# Altium schematic symbol library Components.SchLib: 65 symbols (part 2 of 2)
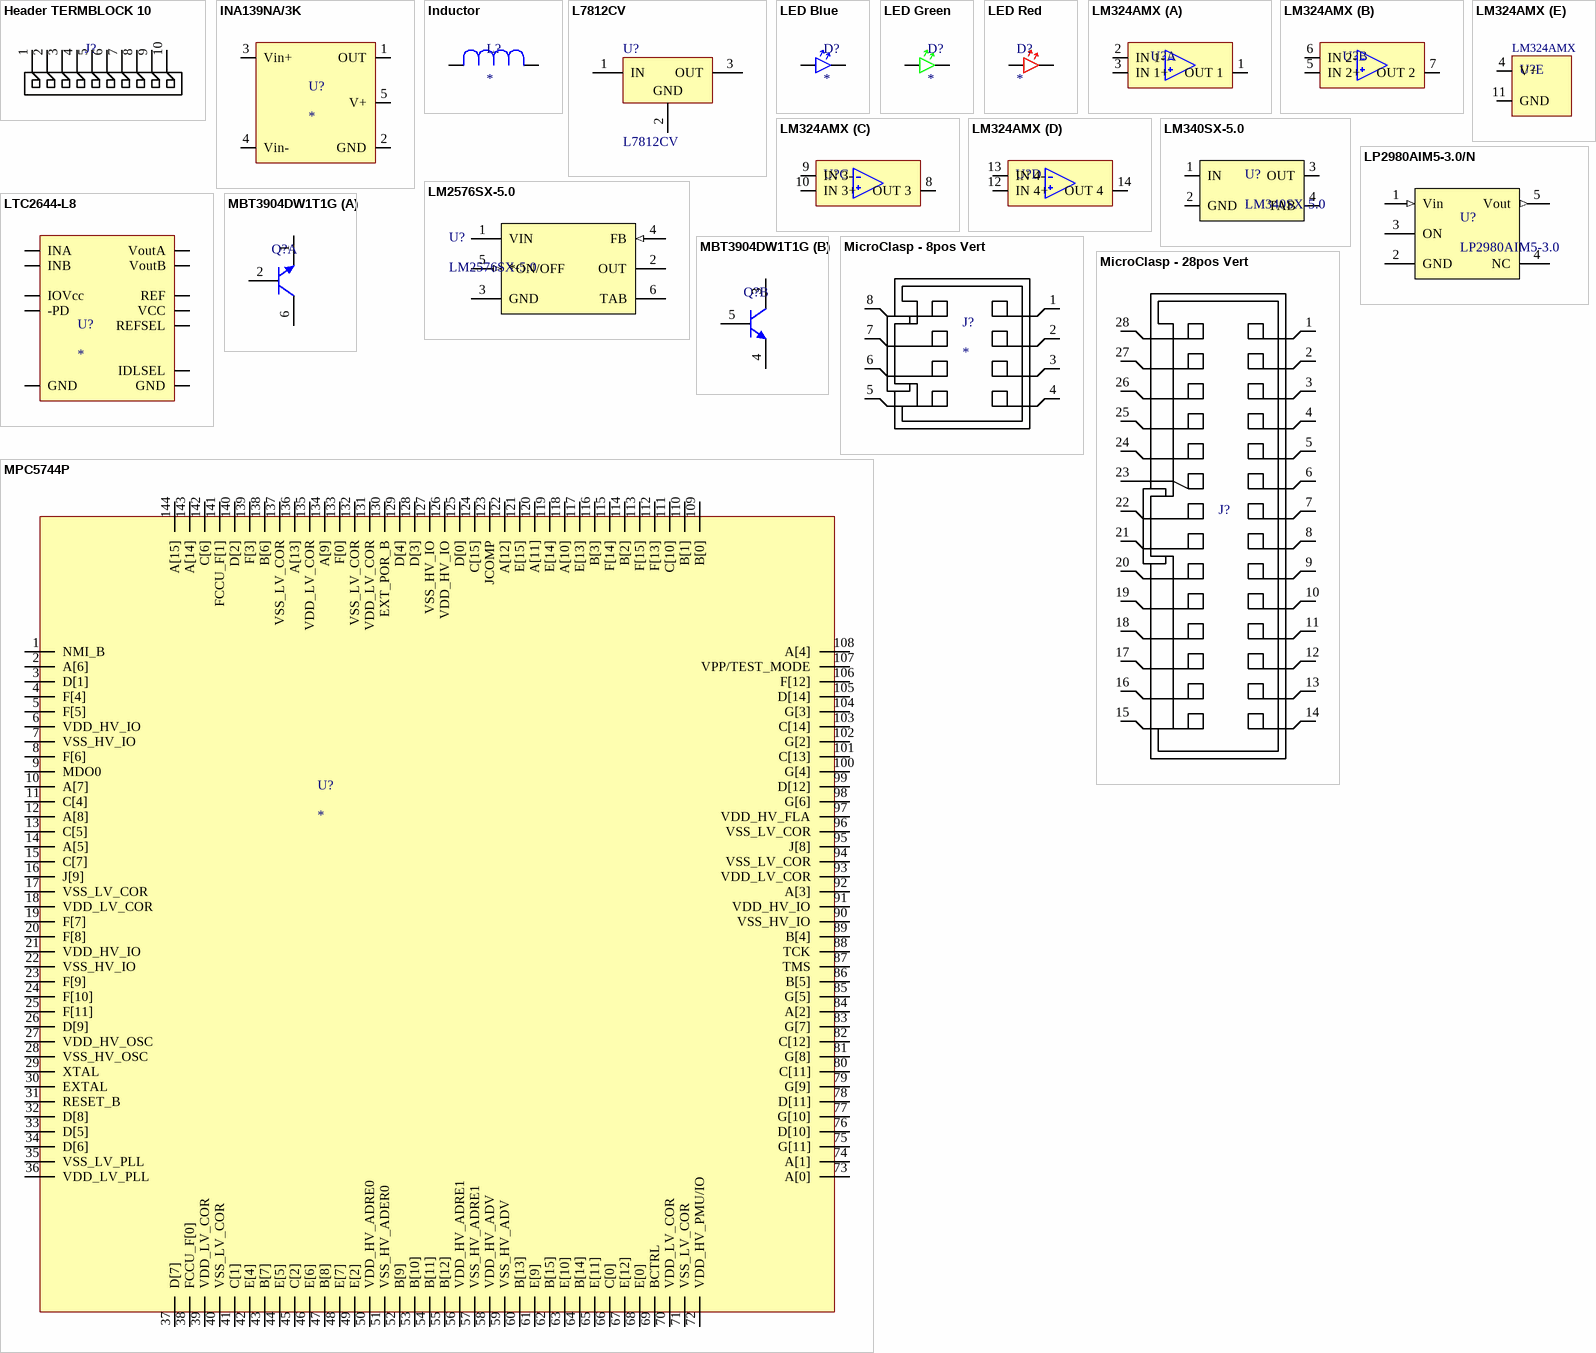
[diagram p3: symbols Header TERMBLOCK 10 to MPC5744P]

## MBT3904DW1T1G
designator Q?
Dual General Purpose Transistors, 6-Pin SOT-363, Pb-Free, Tape and Reel; Manufacturer: On Semiconductor; PartNumber: MBT3904DW1T1G; fT Min (MHz): 300; IC Continuous (A): 0.2; Polarity: Dual NPN; DatasheetVersion: Rev. 9; PackageVersion: Rev. W, 01/2006; PackageReference: SOT-363-6-419B-02_W; PackageDescription: 6-Pin Small Outline Transistor, Body 2 x 1.25 mm, Pitch 0.65 mm; Supplier 1: Digi-Key; Supplier Part Number 1: MBT3904DW1T1GOSTR-ND; Supplier 2: Digi-Key; Supplier Part Number 2: MBT3904DW1T1GOSCT-ND; Supplier 3: Digi-Key; Supplier Part Number 3: MBT3904DW1T1GOSDKR-ND; Supplier 4: Farnell; Supplier Part Number 4: 2317918; Supplier 5: Farnell; Supplier Part Number 5: 1653615; Supplier 6: Farnell; Supplier Part Number 6: 1653615RL; Supplier 7: Newark; Supplier Part Number 7: 88H4687; Supplier 8: Newark; Supplier Part Number 8: 67R1321; Supplier 9: Mouser; Supplier Part Number 9: 863-MBT3904DW1T1G; Packing: Tape and Reel; RoHS: TRUE; Mounting Technology: Surface Mount; ComponentLink1Description: Manufacturer URL; ComponentLink1URL: http://www.onsemi.com/; ComponentLink2Description: Datasheet; ComponentLink2URL: http://www.onsemi.com/pub_link/Collateral/MBT3904DW1T1-D.PDF; ComponentLink3Description: Package Specification; ComponentLink3URL: http://www.onsemi.com/pub_link/Collateral/NTJD4001N-D.PDF
footprint ONSC-SOT-363-6-419B-02_W_V (SOT23, 6-Leads, Body 2x1.25mm, Pitch 0.65mm)
part A pins: 1 E, 2 B, 6 C
part B pins: 3 C, 4 E, 5 B

## MicroClasp - 8pos Vert
designator J?
Conn Shrouded Header HDR 8 POS 2mm Solder ST Thru-Hole MicroClasp™ Tray
footprint MicroClasp 8pos
pins: 1, 2, 3, 4, 5, 6, 7, 8

## MicroClasp - 28pos Vert
designator J?
Conn Shrouded Header HDR 28 POS 2mm Solder ST Thru-Hole MicroClasp™ Tray; Manufacturer: Molex; Manufacturer Part Number: 0559172810; Number of Positions: 28; Contact Resistance: 20mR; Max Voltage Rating (DC): 250V; Connector Type: Male Pin; Pitch: 0.079inch; Row Spacing: 0.197inch; Supplier 1: Digi-Key; RoHS: Yes; Category: Headers and Wire Housings; Stock 1: 2604; Pricing 1: 1=1.26000, 10=1.11000, 400=0.87058, 800=0.76176, 1200=0.69647, 5200=0.60941, 10000=0.57894 (USD); Mount: Through Hole; Contact Plating: Tin; Contact Material: Brass; Housing Material: Polybutylene; Color: Natural; Housing Color: White; Min Operating Temperature: -25°C; Max Operating Temperature: 85°C; Number of Rows: 2; Packaging: Tray; Termination: Solder; Orientation: Straight; Fastening Type: Latch; Max Voltage Rating (AC): 250V; Length: 31.4mm; Depth: 11.5mm; Contact Mating Length: 0.15inch; Radiation Hardening: No; ComponentLink1URL: https://datasheet.ciiva.com/737/559172810-sd-737995.pdf?src-supplier=Digi-Key; ComponentLink1Description: https://datasheet.ciiva.com/737/559172810-sd-737995.pdf?src-supplier=Digi-Key; Supplier Part Number 1: WM3442-ND
footprint MicroClasp 28pos
pins: 1, 2, 3, 4, 5, 6, 7, 8, 9, 10, 11, 12, 13, 14, 15, 16, 17, 18, 19, 20, 21, 22, 23, 24, 25, 26, 27, 28

## MPC5744P
designator U?
footprint 144 LQFP (CQFP, 144-Leads, Body 22.00x22.00mm, Pitch 0.50mm, IPC Medium Density)
pins: 1 NMI_B, 2 A[6], 3 D[1], 4 F[4], 5 F[5], 6 VDD_HV_IO, 7 VSS_HV_IO, 8 F[6], 9 MDO0, 10 A[7], 11 C[4], 12 A[8], 13 C[5], 14 A[5], 15 C[7], 16 J[9], 17 VSS_LV_COR, 18 VDD_LV_COR, 19 F[7], 20 F[8], 21 VDD_HV_IO, 22 VSS_HV_IO, 23 F[9], 24 F[10], 25 F[11], 26 D[9], 27 VDD_HV_OSC, 28 VSS_HV_OSC, 29 XTAL, 30 EXTAL, 31 RESET_B, 32 D[8], 33 D[5], 34 D[6], 35 VSS_LV_PLL, 36 VDD_LV_PLL, 37 D[7], 38 FCCU_F[0], 39 VDD_LV_COR, 40 VSS_LV_COR, 41 C[1], 42 E[4], 43 B[7], 44 E[5], 45 C[2], 46 E[6], 47 B[8], 48 E[7], 49 E[2], 50 VDD_HV_ADRE0, 51 VSS_HV_ADER0, 52 B[9], 53 B[10], 54 B[11], 55 B[12], 56 VDD_HV_ADRE1, 57 VSS_HV_ADRE1, 58 VDD_HV_ADV, 59 VSS_HV_ADV, 60 B[13], 61 E[9], 62 B[15], 63 E[10], 64 B[14], 65 E[11], 66 C[0], 67 E[12], 68 E[0], 69 BCTRL, 70 VDD_LV_COR, 71 VSS_LV_COR, 72 VDD_HV_PMU/IO, 73 A[0], 74 A[1], 75 G[11], 76 D[10], 77 G[10], 78 D[11], 79 G[9], 80 C[11], 81 G[8], 82 C[12], 83 G[7], 84 A[2], 85 G[5], 86 B[5], 87 TMS, 88 TCK, 89 B[4], 90 VSS_HV_IO, 91 VDD_HV_IO, 92 A[3], 93 VDD_LV_COR, 94 VSS_LV_COR, 95 J[8], 96 VSS_LV_COR, 97 VDD_HV_FLA, 98 G[6], 99 D[12], 100 G[4], 101 C[13], 102 G[2], 103 C[14], 104 G[3], 105 D[14], 106 F[12], 107 VPP/TEST_MODE, 108 A[4], 109 B[0], 110 B[1], 111 C[10], 112 F[13], 113 F[15], 114 B[2], 115 F[14], 116 B[3], 117 E[13], 118 A[10], 119 E[14], 120 A[11], 121 E[15], 122 A[12], 123 JCOMP, 124 C[15], 125 D[0], 126 VDD_HV_IO, 127 VSS_HV_IO, 128 D[3], 129 D[4], 130 EXT_POR_B, 131 VDD_LV_COR, 132 VSS_LV_COR, 133 F[0], 134 A[9], 135 VDD_LV_COR, 136 A[13], 137 VSS_LV_COR, 138 B[6], 139 F[3], 140 D[2], 141 FCCU_F[1], 142 C[6], 143 A[14], 144 A[15]

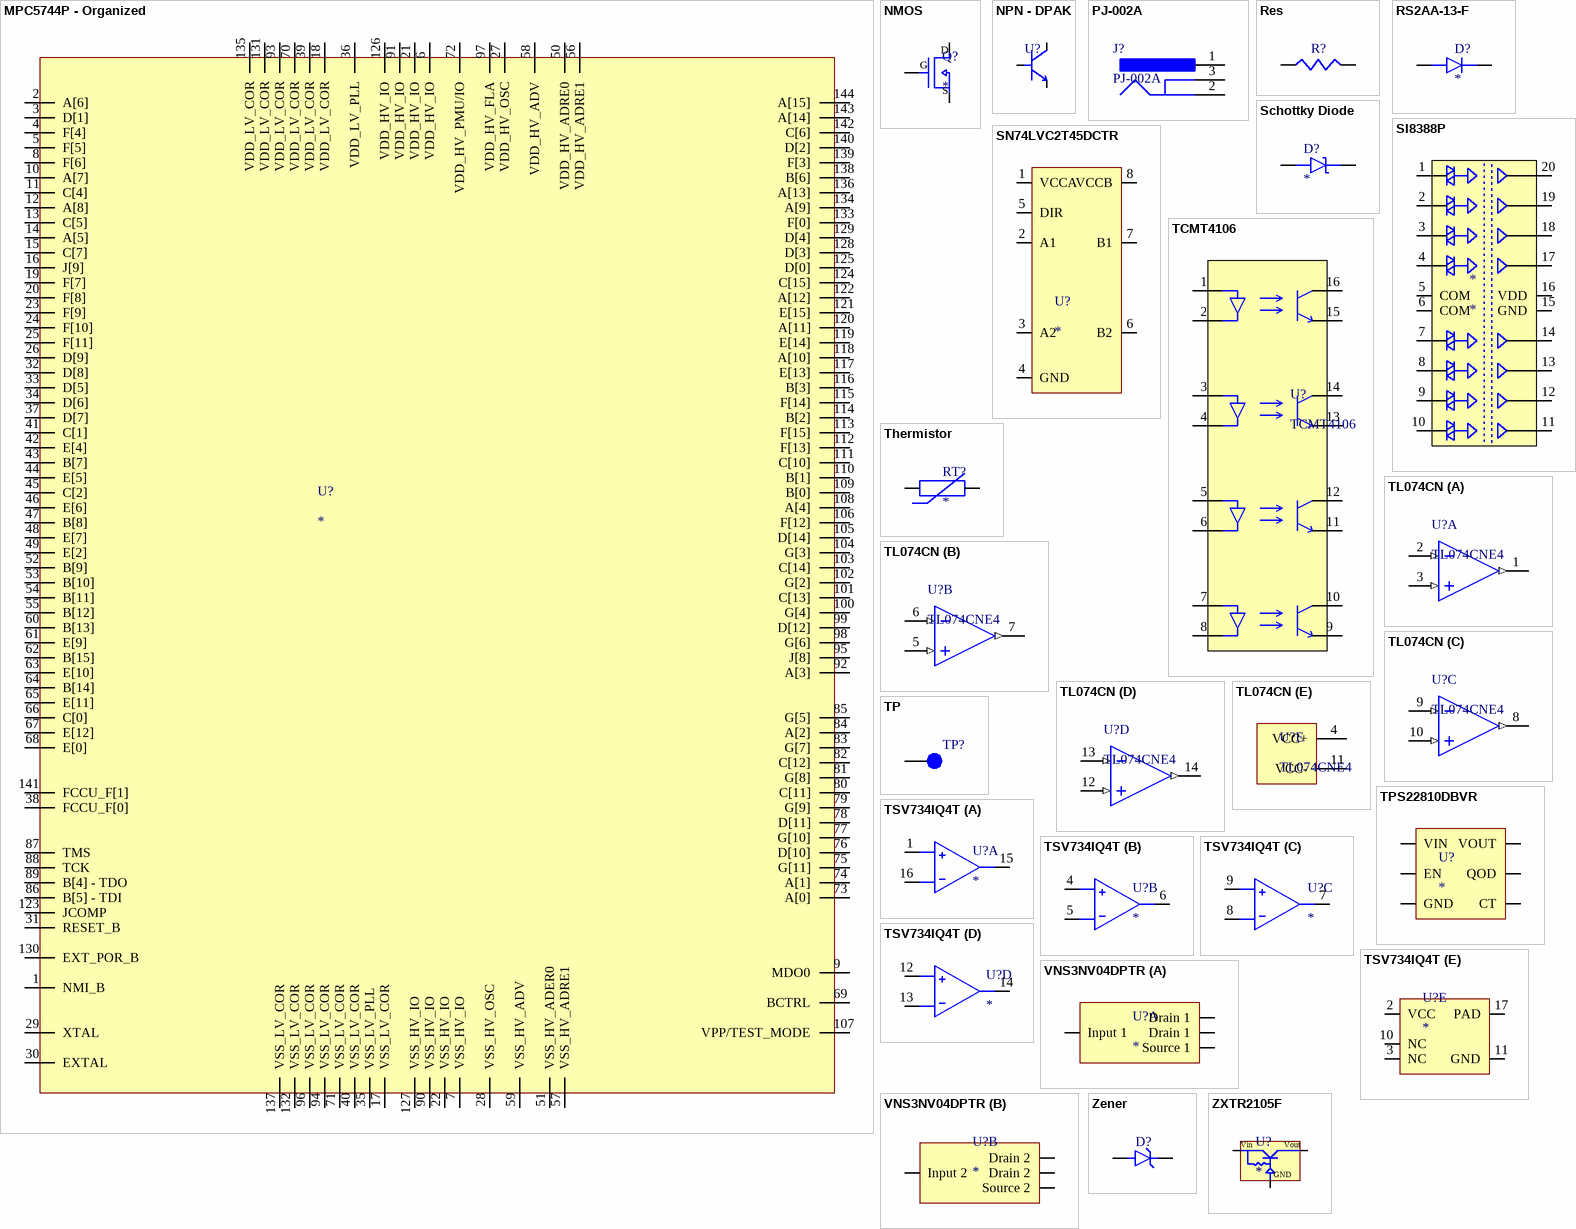
[diagram p2: symbols MPC5744P - Organized to ZXTR2105F]

## MPC5744P - Organized
designator U?
footprint 144 LQFP (CQFP, 144-Leads, Body 22.00x22.00mm, Pitch 0.50mm, IPC Medium Density)
pins: 1 NMI_B, 2 A[6], 3 D[1], 4 F[4], 5 F[5], 6 VDD_HV_IO, 7 VSS_HV_IO, 8 F[6], 9 MDO0, 10 A[7], 11 C[4], 12 A[8], 13 C[5], 14 A[5], 15 C[7], 16 J[9], 17 VSS_LV_COR, 18 VDD_LV_COR, 19 F[7], 20 F[8], 21 VDD_HV_IO, 22 VSS_HV_IO, 23 F[9], 24 F[10], 25 F[11], 26 D[9], 27 VDD_HV_OSC, 28 VSS_HV_OSC, 29 XTAL, 30 EXTAL, 31 RESET_B, 32 D[8], 33 D[5], 34 D[6], 35 VSS_LV_PLL, 36 VDD_LV_PLL, 37 D[7], 38 FCCU_F[0], 39 VDD_LV_COR, 40 VSS_LV_COR, 41 C[1], 42 E[4], 43 B[7], 44 E[5], 45 C[2], 46 E[6], 47 B[8], 48 E[7], 49 E[2], 50 VDD_HV_ADRE0, 51 VSS_HV_ADER0, 52 B[9], 53 B[10], 54 B[11], 55 B[12], 56 VDD_HV_ADRE1, 57 VSS_HV_ADRE1, 58 VDD_HV_ADV, 59 VSS_HV_ADV, 60 B[13], 61 E[9], 62 B[15], 63 E[10], 64 B[14], 65 E[11], 66 C[0], 67 E[12], 68 E[0], 69 BCTRL, 70 VDD_LV_COR, 71 VSS_LV_COR, 72 VDD_HV_PMU/IO, 73 A[0], 74 A[1], 75 G[11], 76 D[10], 77 G[10], 78 D[11], 79 G[9], 80 C[11], 81 G[8], 82 C[12], 83 G[7], 84 A[2], 85 G[5], 86 B[5] - TDI, 87 TMS, 88 TCK, 89 B[4] - TDO, 90 VSS_HV_IO, 91 VDD_HV_IO, 92 A[3], 93 VDD_LV_COR, 94 VSS_LV_COR, 95 J[8], 96 VSS_LV_COR, 97 VDD_HV_FLA, 98 G[6], 99 D[12], 100 G[4], 101 C[13], 102 G[2], 103 C[14], 104 G[3], 105 D[14], 106 F[12], 107 VPP/TEST_MODE, 108 A[4], 109 B[0], 110 B[1], 111 C[10], 112 F[13], 113 F[15], 114 B[2], 115 F[14], 116 B[3], 117 E[13], 118 A[10], 119 E[14], 120 A[11], 121 E[15], 122 A[12], 123 JCOMP, 124 C[15], 125 D[0], 126 VDD_HV_IO, 127 VSS_HV_IO, 128 D[3], 129 D[4], 130 EXT_POR_B, 131 VDD_LV_COR, 132 VSS_LV_COR, 133 F[0], 134 A[9], 135 VDD_LV_COR, 136 A[13], 137 VSS_LV_COR, 138 B[6], 139 F[3], 140 D[2], 141 FCCU_F[1], 142 C[6], 143 A[14], 144 A[15]

## NMOS
designator Q?
footprint SOT23 - 3
pins: 1 Gate, 2 Source, 3 Drain
text: D; G; S

## NPN - DPAK
designator U?  (value not drawn)
footprint DPAK -3
pins: 1, 3, 4

## PJ-002A
designator J?
CONN PWR JACK 2X5.5MM SOLDER; Manufacturer: CUIInc.; Connector Type: DCPowerJack; Brand: CUI; Inside Contact Diameter: 2mm; Voltage Rating: 24V; Mounting Angle: Right; Outside Contact Diameter: 6.5mm; Current Rating: 2.5A; Insulation Resistance: 50MOhms; Option: General Purpose; Rated Current (Power): 1A; DIN Conformance: No; Contact Gender: Male; Datasheet Version: Rev. 1.03, 04/2016; Housing Material: PolybutyleneTerephthalate(PBT); Operating Temperature Range: -25Cto+85C; Termination Style: ThroughHole; Product Category: DCPowerConnectors; Mounting Technology: ThroughHole; Mounting Style: ThroughHole; Factory Pack Quantity: 500; Contact Plating: Nickel; Package Reference: PJ-002A; Package Description: 3-Pin Through Hole Device, Body 14.4 x 9 mm, Height 11 mm; Flammability Rating: UL94V-0; Manufacturer URL: http://www.cui.com/; Product: Jacks; Contact Material: Copper; Datasheet URL: http://www.cui.com/product/resource/pj-002a.pdf; RoHS: True; Supplier: Mouser; Supplier Part Number: 490-PJ-002A; Manufacturer Part Number: PJ-002A; Category: Uncategorized; Contact Finish - Mating: NOT SPECIFIED; Body/Shell Style: JACK; Termination: Solder; Pin Diameter: 2mm; Reach SVHC Compliant: Yes; RoHS Compliant: Yes; IEC Conformance: No; MIL Conformance: No; ComponentLink1URL: https://datasheet.ciiva.com:443/pdfs/VipMasterIC/IC/CUIS/CUIS-S-A0007606357/CUIS-S-A0007606357-1.pdf?src-supplier=IHS+Markit; ComponentLink1Description: https://datasheet.ciiva.com:443/pdfs/VipMasterIC/IC/CUIS/CUIS-S-A0007606357/CUIS-S-A0007606357-1.pdf?src-supplier=IHS+Markit; ComponentLink2URL: http://www.mouser.com/ds/2/670/pj-002a-515880.pdf?src-supplier=Mouser; ComponentLink2Description: http://www.mouser.com/ds/2/670/pj-002a-515880.pdf?src-supplier=Mouser; ComponentLink3URL: https://www.cui.com/product/resource/digikeypdf/pj-002a.pdf?src-supplier=Digikey; ComponentLink3Description: https://www.cui.com/product/resource/digikeypdf/pj-002a.pdf?src-supplier=Digikey; ComponentLink4URL: http://www.cui.com/Product/Resource/FuturePDF/PJ-002A.pdf?src-supplier=Future+Electronics; ComponentLink4Description: http://www.cui.com/Product/Resource/FuturePDF/PJ-002A.pdf?src-supplier=Future+Electronics
footprint CUI-PJ-002A_V (THD, 3-Leads, Body 14.4x9mm, Height 11mm)
pins: 1, 2, 3

## Res
designator R?  (value not drawn)
footprint 0201-RES
footprint 0402-RES
footprint 0603-RES
footprint 0805-RES
footprint 1206-RES
footprint 2512-RES
footprint AXIAL - 03.5mm Length
footprint AXIAL - 04.2mm Length
footprint AXIAL - 07.4mm Length
footprint AXIAL - 09.4mm Length
footprint AXIAL - 11.5mm Length
pins: 1, 2

## RS2AA-13-F
designator D?
Rectifier Diode, 1 Phase, 1 Element, 1.5A, 50V V(RRM), Silicon; Manufacturer: Diodes; Manufacturer Part Number: RS2AA-13-F; Package Body Material: Plastic; Application(s): EFFICIENCY; Forward Voltage: 1.3V; Non-rep Pk Forward Current-Max: 50A; Number of Elements: 1; Reverse Recovery Time-Max: 0.15us; Time @ Peak Reflow Temperature-Max (s): 40s; Qualification Status: Not Qualified; Supplier: Newark; Supplier Part Number: 29AK5192; RoHS: Yes; Category: Rectifier Diodes; Stock: 4870; Pricing: 5=0.381, 10=0.303, 25=0.264, 50=0.226, 100=0.187, 250=0.181, 500=0.175, 1000=0.124 (USD); Pins: 2; Diode Element Material: SILICON; Package Shape: Rectangular; Terminal Finish: Tin; Min Operating Temperature: -65°C; Max Operating Temperature: 150°C; JESD-609 Code: e3; Diode Type: RECTIFIER; JESD-30 Code: R-PDSO-C2; Moisture Sensitivity Level: 1; Number of Phases: 1; Max Output current: 1.5A; Package Style: SMALL OUTLINEMeter; Peak Reflow Temperature (Cel): 260°C; Rep Pk Reverse Voltage-Max: 50V; Surface Mount: Yes; Terminal Form: C BEND; Terminal Position: DUAL; RoHS Compliant: Yes; Reach SVHC Compliant: No; ComponentLink1URL: https://datasheet.ciiva.com:443/pdfs/VipMasterIC/IC/DIOD/DIODS13030/DIODS13030-1.pdf?src-supplier=IHS+Markit; ComponentLink1Description: https://datasheet.ciiva.com:443/pdfs/VipMasterIC/IC/DIOD/DIODS13030/DIODS13030-1.pdf?src-supplier=IHS+Markit; ComponentLink2URL: https://datasheet.ciiva.com/16483/ds15004-16483689.pdf?src-supplier=Future+Electronics; ComponentLink2Description: https://datasheet.ciiva.com/16483/ds15004-16483689.pdf?src-supplier=Future+Electronics
footprint DIOM4326X23N (Molded Diode, 2-Leads, Body 4.30x2.61mm, IPC Medium Density)
pins: 1, 2

## Schottky Diode
designator D?
footprint CFP5 - Diode
pins: 1, 2

## SI8388P
designator *
DGTL ISO 2.5KV 8CH 20QSOP; Manufacturer: Silicon Labs; Manufacturer Part Number: SI8388P-IU; Supplier 1: Digi-Key; RoHS: No; Stock 1: 289; Pricing 1: 1=3.58000, 25=3.44320, 100=3.31090, 1000=3.25441 (USD); ComponentLink1URL: https://www.silabs.com/documents/public/data-sheets/Si838x-DataSheet.pdf?src-supplier=Digi-Key; ComponentLink1Description: https://www.silabs.com/documents/public/data-sheets/Si838x-DataSheet.pdf?src-supplier=Digi-Key; Supplier Part Number 1: 336-3630-5-ND
footprint SOP635 - 20 (0.635mm pitch, 5.4mm span)
pins: 1, 2, 3, 4, 5 COM, 6 COM, 7, 8, 9, 10, 11, 12, 13, 14, 15 GND, 16 VDD, 17, 18, 19, 20

## SN74LVC2T45DCTR
designator U?
TEXAS INSTRUMENTS - SN74LVC2T45DCTR - Bus Transceiver, LVC Family, 2 Input, 50 mA, 3.9 ns, 1.65 V to 5.5 V, SSOP-8; Direction: Bidirectional; Logic Function: Translator,Transceiver; Number of Channels: 2; Propagation Delay: 45.2ns; Max Supply Voltage: 5.5V; Min Supply Voltage: 1.65V; Number of Elements: 1; Data Rate: 420Mbps; Turn-On Delay Time: 17.7ns; Polarity: Non-Inverting; High Level Output Current: -32mA; Low Level Output Current: 32mA; Quiescent Current: 3uA; Output Current: 50mA; Supplier 1: Digi-Key; Manufacturer: Texas Instruments; Manufacturer Part Number: SN74LVC2T45DCTR; RoHS: Yes; Category: Logic Gates; Stock 1: 209598; Pricing 1: 1=0.59000, 10=0.52100, 25=0.49000, 100=0.39970, 250=0.37132, 500=0.31600, 1000=0.25280 (USD); Case/Package: SSOP; Number of Pins: 8; Weight: 0.000825oz; Contact Plating: Gold; Min Operating Temperature: -40°C; Max Operating Temperature: 85°C; Package Quantity: 3000; Packaging: Tape and Reel; Number of Bits: 2; Number of Inputs: 2; Length: 2.4mm; Height: 2.1mm; Width: 0.8mm; Radiation Hardening: No; Lead Free: Lead Free; REACH SVHC: No SVHC; ComponentLink1URL: https://datasheet.ciiva.com/34301/1046748-34301921.pdf?src-supplier=Jameco; ComponentLink1Description: https://datasheet.ciiva.com/34301/1046748-34301921.pdf?src-supplier=Jameco; ComponentLink2URL: https://datasheet.ciiva.com/1899/sn74lvc2t45-1899281.pdf?src-supplier=Digi-Key; ComponentLink2Description: https://datasheet.ciiva.com/1899/sn74lvc2t45-1899281.pdf?src-supplier=Digi-Key; ComponentLink3URL: https://datasheet.ciiva.com/15086/getdatasheetpartid-190128-15086325.pdf?src-supplier=Verical; ComponentLink3Description: https://datasheet.ciiva.com/15086/getdatasheetpartid-190128-15086325.pdf?src-supplier=Verical; ComponentLink4URL: https://datasheet.ciiva.com/14300/sn74lvc2t45-14300711.pdf?src-supplier=Avnet; ComponentLink4Description: https://datasheet.ciiva.com/14300/sn74lvc2t45-14300711.pdf?src-supplier=Avnet; ComponentLink5URL: https://datasheet.ciiva.com/1508/1863620-1508814.pdf?src-supplier=Element14; ComponentLink5Description: https://datasheet.ciiva.com/1508/1863620-1508814.pdf?src-supplier=Element14; ComponentLink6URL: https://datasheet.ciiva.com/1628/1862500-1628670.pdf?src-supplier=Newark; ComponentLink6Description: https://datasheet.ciiva.com/1628/1862500-1628670.pdf?src-supplier=Newark; ComponentLink7URL: https://datasheet.ciiva.com/1899/sn74lvc2t45-1899282.pdf?src-supplier=Digi-Key; ComponentLink7Description: https://datasheet.ciiva.com/1899/sn74lvc2t45-1899282.pdf?src-supplier=Digi-Key; ComponentLink8URL: https://datasheet.ciiva.com/1899/sn74lvc2t45-1899283.pdf?src-supplier=Digi-Key; ComponentLink8Description: https://datasheet.ciiva.com/1899/sn74lvc2t45-1899283.pdf?src-supplier=Digi-Key; ComponentLink9URL: https://datasheet.ciiva.com/14300/sn74lvc2t45-14300710.pdf?src-supplier=Avnet; ComponentLink9Description: https://datasheet.ciiva.com/14300/sn74lvc2t45-14300710.pdf?src-supplier=Avnet; ComponentLink10URL: https://datasheet.ciiva.com/22653/sn74lvc2t45-22653414.pdf?src-supplier=Farnell; ComponentLink10Description: https://datasheet.ciiva.com/22653/sn74lvc2t45-22653414.pdf?src-supplier=Farnell; ComponentLink11URL: https://datasheet.ciiva.com/46395/1882347-46395882.pdf?src-supplier=Element14; ComponentLink11Description: https://datasheet.ciiva.com/46395/1882347-46395882.pdf?src-supplier=Element14; ComponentLink12URL: https://datasheet.ciiva.com/25971/sn74lvc2t45-25971979.pdf?src-supplier=Avnet+Europe; ComponentLink12Description: https://datasheet.ciiva.com/25971/sn74lvc2t45-25971979.pdf?src-supplier=Avnet+Europe; Supplier Part Number 1: 296-16845-1-ND
footprint SOP65 - 08
pins: 1 VCCA, 2 A1, 3 A2, 4 GND, 5 DIR, 6 B2, 7 B1, 8 VCCB

## TCMT4106
designator U?
Optocoupler DC-IN 4-CH Transistor DC-OUT 16-Pin SOP T/R; Vendor: VISHAY; Built_By: EMA_UL_Team; Collector Emitter Voltage (VCEO): 70V; Number of Channels: 4; Reverse Breakdown Voltage: 6V; Forward Voltage: 1.6V; Forward Current: 60mA; Max Power Dissipation: 250mW; Output Current per Channel: 50mA; Collector Emitter Saturation Voltage: 300mV; Isolation Voltage: 3.75kV; Current Transfer Ratio: 300%; Manufacturer_Part_Number: TCMT4106; Copyright: Copyright (C) 2018 Accelerated Designs. All rights reserved; RefDes: RefDes; Type: DEV; Value: Value; Supplier 1: Digi-Key; Manufacturer: Vishay; Manufacturer Part Number: TCMT4106; RoHS: Yes; Category: Optocouplers; Stock 1: 5007; Pricing 1: 1=2.23000, 10=1.97900, 100=1.14910, 500=1.02144, 1000=0.87780 (USD); Mount: Surface Mount; Case/Package: SOP; Number of Pins: 16; Contact Plating: Tin,Matte; Min Operating Temperature: -40°C; Max Operating Temperature: 100°C; Package Quantity: 2000; Packaging: Tape and Reel; Max Output Voltage: 70V; Number of Elements: 4; Power Dissipation: 250mW; Max Collector Current: 50mA; Max Input Current: 60mA; Radiation Hardening: No; Lead Free: Lead Free; ComponentLink1URL: https://datasheet.ciiva.com/15119/getdatasheetpartid-308030-15119045.pdf?src-supplier=Verical; ComponentLink1Description: https://datasheet.ciiva.com/15119/getdatasheetpartid-308030-15119045.pdf?src-supplier=Verical; ComponentLink2URL: https://datasheet.ciiva.com/29730/tcmt4100-29730280.pdf?src-supplier=Digi-Key; ComponentLink2Description: https://datasheet.ciiva.com/29730/tcmt4100-29730280.pdf?src-supplier=Digi-Key; ComponentLink3URL: https://datasheet.ciiva.com/29730/tcmt4100-29730282.pdf?src-supplier=Digi-Key; ComponentLink3Description: https://datasheet.ciiva.com/29730/tcmt4100-29730282.pdf?src-supplier=Digi-Key; ComponentLink4URL: https://datasheet.ciiva.com/16493/tcmt1100-16493639.pdf?src-supplier=Future+Electronics; ComponentLink4Description: https://datasheet.ciiva.com/16493/tcmt1100-16493639.pdf?src-supplier=Future+Electronics; ComponentLink5URL: https://datasheet.ciiva.com/29730/tcmt4100-29730281.pdf?src-supplier=Digi-Key; ComponentLink5Description: https://datasheet.ciiva.com/29730/tcmt4100-29730281.pdf?src-supplier=Digi-Key; Supplier Part Number 1: TCMT4106CT-ND
footprint SOP127 - 8
pins: 1, 2, 3, 4, 5, 6, 7, 8, 9, 10, 11, 12, 13, 14, 15, 16

## Thermistor
designator RT?
footprint 0201-RES
footprint 0402-RES
footprint 0603-RES
footprint 0805-RES
footprint 1206-RES
footprint 2512-RES
footprint Through-Hole .25mm
pins: 1, 2

## TL074CN
designator U?, comment TL074CNE4
Quad Low-Noise JFET-Input General-Purpose Operational Amplifier, 7 to 36 V, 0 to 70 degC, 14-pin DIP (N14), Pb-Free (RoHS); Manufacturer: Texas Instruments; Iq per channel(Max)(mA): 2.5; Total Supply Voltage(Max)(+5V is 5, +/-5V is 10): 36; GBW(Typ)(MHz): 3; Number of Channels: 4; Sub Family: General Purpose Amplifier, High Supply Voltage Amplifier (>=30V); CMRR(Min)(dB): 70; Slew Rate(Typ)(V/us): 13; IIB(Max)(pA): 200; Offset Drift(Typ)(uV/C): 18; Rating: Military; Vio (25C)(Max)(mV): 10; Total Supply Voltage(Min)(+5V is 5, +/-5V is 10): 7; PackageVersion: 4040049/E, 12/2002; DatasheetVersion: SLOS080J; Code_JEDEC: MS-001; PackageReference: N14; ComponentLink1Description: Manufacturer URL; Mounting Technology: Through Hole; PartNumber: TL074CNE4; ComponentLink2URL: http://www.ti.com/lit/ds/symlink/tl074.pdf; ComponentLink1URL: http://www.ti.com/; PackageDescription: 14-Pin Plastic In-Line, Body 19.305 x 6.35 mm, Pitch 2.54 mm; ComponentLink2Description: Datasheet; Eco-Plan: Pb-Free (RoHS); Vn at 1kHz(Typ)(nV/rtHz): 18; ComponentLink3URL: http://www.ti.com/lit/ml/mpdi002c/mpdi002c.pdf; ComponentLink3Description: Package Specification
footprint TL074CN
part A pins: 1 OUT1 (out), 2 IN1- (in), 3 IN1+ (in)
part B pins: 5 IN2+ (in), 6 IN2- (in), 7 OUT2 (out)
part C pins: 8 OUT3 (out), 9 IN3- (in), 10 IN3+ (in)
part D pins: 12 IN4+ (in), 13 IN4- (in), 14 OUT4 (out)
part E pins: 4 VCC+ (power), 11 VCC- (power)

## TP
designator TP?  (value not drawn)
footprint TP - Through Hole
footprint TP - Pad
pins: 1

## TPS22810DBVR
designator U?
IC PWR SWITCH N-CHAN 1:1 6SOT23; Manufacturer: Texas Instruments; Manufacturer Part Number: TPS22810DBVR; Number of Channels: 1; Supplier 1: Digi-Key; RoHS: No; Stock 1: 15968; Pricing 1: 1=0.64000, 10=0.54500, 25=0.50840, 100=0.37760, 250=0.31952, 500=0.30498, 1000=0.22511 (USD); Min Operating Temperature: -40°C; Max Operating Temperature: 105°C; ComponentLink1URL: http://www.ti.com/lit/ds/symlink/tps22810.pdf?src-supplier=Digi-Key; ComponentLink1Description: http://www.ti.com/lit/ds/symlink/tps22810.pdf?src-supplier=Digi-Key; Supplier Part Number 1: 296-45297-1-ND
footprint SOT95 - 6
pins: 1 VIN, 2 GND, 3 EN, 4 CT, 5 QOD, 6 VOUT

## TSV734IQ4T
designator U?
IC OPAMP GP 900KHZ RRO 16QFN; Manufacturer: STMicroelectronics; Manufacturer Part Number: TSV734IQ4T; Slew Rate: 0.35V/µs; Common Mode Rejection Ratio: 80dB; Max Supply Voltage: 5.5V; Min Supply Voltage: 1.5V; Voltage Gain: 105dB; Number of Channels: 4; Input Bias Current: 1pA; Input Offset Voltage (Vos): 200uV; Power Supply Rejection Ratio (PSRR): 90dB; Operating Supply Current: 70uA; Output Current per Channel: 68mA; Max Frequency: 2.4GHz; Supplier 1: Digi-Key; RoHS: Yes; Category: Amplifiers - Op Amps, Buffer, Instrumentation; Stock 1: 427; Pricing 1: 1=1.38000, 10=1.23100, 25=1.16800, 100=0.89690, 250=0.79260, 500=0.75088, 1000=0.58401 (USD); Mount: Surface Mount; Case/Package: QFN; Number of Pins: 16; Min Operating Temperature: -40°C; Max Operating Temperature: 125°C; Packaging: Tape and Reel; Package Quantity: 3000; Unity Gain Bandwidth Product: 900kHz; Number of Circuits: 4; Gain Bandwidth Product: 900kHz; Bandwidth: 900kHz; Number of Amplifiers: 4; Number of Elements: 4; Length: 3.1mm; Height: 0.95mm; Width: 3.1mm; Radiation Hardening: No; REACH SVHC: No SVHC; ComponentLink1URL: https://datasheet.ciiva.com/24021/dm00065944-24021876.pdf?src-supplier=Mouser; ComponentLink1Description: https://datasheet.ciiva.com/24021/dm00065944-24021876.pdf?src-supplier=Mouser; ComponentLink2URL: https://datasheet.ciiva.com/30007/dm00065944-30007720.pdf?src-supplier=Avnet; ComponentLink2Description: https://datasheet.ciiva.com/30007/dm00065944-30007720.pdf?src-supplier=Avnet; ComponentLink3URL: https://datasheet.ciiva.com/18621/dm00065944-18621835.pdf?src-supplier=Digi-Key; ComponentLink3Description: https://datasheet.ciiva.com/18621/dm00065944-18621835.pdf?src-supplier=Digi-Key; ComponentLink4URL: https://datasheet.ciiva.com/18621/dm00065944-18621833.pdf?src-supplier=Digi-Key; ComponentLink4Description: https://datasheet.ciiva.com/18621/dm00065944-18621833.pdf?src-supplier=Digi-Key; ComponentLink5URL: https://datasheet.ciiva.com/18621/dm00065944-18621834.pdf?src-supplier=Digi-Key; ComponentLink5Description: https://datasheet.ciiva.com/18621/dm00065944-18621834.pdf?src-supplier=Digi-Key; Supplier Part Number 1: 497-13805-1-ND
footprint QFN 16 3x3 (QFN, 16-Leads, Body 3.00x3.00mm, Pitch 0.50mm, Thermal Pad 1.70x1.70mm, IPC Medium Density)
part A pins: 1 In+, 15 Out, 16 In-
part B pins: 4 In+, 5 In-, 6 Out
part C pins: 7 Out, 8 In-, 9 In+
part D pins: 12 In+, 13 In-, 14 Out
part E pins: 2 VCC, 3 NC, 10 NC, 11 GND, 17 PAD

## VNS3NV04DPTR
designator U?
VNS3NV04DP Series 5 A OMNIFET II Fully Autoprotected Power Mosfet - SOIC-8; Manufacturer: STMicroelectronics; Manufacturer Part Number: VNS3NV04DPTR-E; Nominal Supply Current: 100uA; Number of Outputs: 2; Output Current: 3.5A; On-State Resistance: 120mR; Voltage: 40V; Max Output Current: 5A; Supplier 1: Digi-Key; RoHS: Yes; Category: Hot Swap Controllers; Stock 1: 84449; Pricing 1: 1=1.82000, 10=1.63800, 100=1.20510, 500=1.01970, 1000=0.86520 (USD); Mount: Surface Mount; Case/Package: SOIC; Number of Pins: 8; Min Operating Temperature: -40°C; Max Operating Temperature: 150°C; Packaging: Tape and Reel; Package Quantity: 1; Output Current per Channel: 3.5A; Current: 3.5A; Length: 5mm; Height: 1.5mm; Width: 4mm; Radiation Hardening: No; Lead Free: Lead Free; ComponentLink1URL: https://datasheet.ciiva.com/15109/getdatasheetpartid-463709-15109101.pdf?src-supplier=Verical; ComponentLink1Description: https://datasheet.ciiva.com/15109/getdatasheetpartid-463709-15109101.pdf?src-supplier=Verical; ComponentLink2URL: https://datasheet.ciiva.com/6607/dm00023581-6607989.pdf?src-supplier=Digi-Key; ComponentLink2Description: https://datasheet.ciiva.com/6607/dm00023581-6607989.pdf?src-supplier=Digi-Key; ComponentLink3URL: https://datasheet.ciiva.com/6607/dm00023581-6607990.pdf?src-supplier=Digi-Key; ComponentLink3Description: https://datasheet.ciiva.com/6607/dm00023581-6607990.pdf?src-supplier=Digi-Key; ComponentLink4URL: https://datasheet.ciiva.com/41458/001184795-da-01-en-ic-mosfet-omni-vns3nv04dptr-e-soic-8-stm-41458155.pdf?src-supplier=Conrad; ComponentLink4Description: https://datasheet.ciiva.com/41458/001184795-da-01-en-ic-mosfet-omni-vns3nv04dptr-e-soic-8-stm-41458155.pdf?src-supplier=Conrad; Supplier Part Number 1: 497-13078-1-ND
footprint SOIC - 8 (SOIC, 8-Leads, Body 4.90x3.90mm, Pitch 1.27mm, IPC Medium Density)
part A pins: 1 Source 1, 2 Input 1, 7 Drain 1, 8 Drain 1
part B pins: 3 Source 2, 4 Input 2, 5 Drain 2, 6 Drain 2

## Zener
designator D?  (value not drawn)
footprint Diode - SMA (Molded Diode, 2-Leads, Body 4.30x2.59mm, IPC Medium Density)
pins: 1, 2

## ZXTR2105F
designator U?
IC REG LINEAR 5V 89MA SOT23; Manufacturer: Diodes; Manufacturer Part Number: ZXTR2105F-7; Output Current: 15mA; Number of Regulators: 1; Max Input Voltage: 60V; Min Input Voltage: 7V; Max Power Dissipation: 625mW; Output Type: Fixed; Supplier 1: Digi-Key; RoHS: Yes; Category: Voltage Regulators - Linear; Stock 1: 111985; Pricing 1: 1=0.46000, 10=0.39000, 25=0.36400, 100=0.27040, 250=0.22880, 500=0.21840, 1000=0.16120 (USD); Mount: Surface Mount; Case/Package: TO-236-3; Number of Pins: 23; Min Operating Temperature: -65°C; Max Operating Temperature: 150°C; Packaging: Tape and Reel; Output Voltage: 5V; Number of Outputs: 1; Package Quantity: 3000; Lead Free: Lead Free; ComponentLink1URL: http://www.mouser.com/ds/2/115/ZXTR2105F-523844.pdf?src-supplier=Mouser; ComponentLink1Description: http://www.mouser.com/ds/2/115/ZXTR2105F-523844.pdf?src-supplier=Mouser; ComponentLink2URL: https://media.digikey.com/pdf/Data%20Sheets/Diodes%20PDFs/ZXTR2105F_NPA.pdf?src-supplier=Digi-Key; ComponentLink2Description: https://media.digikey.com/pdf/Data%20Sheets/Diodes%20PDFs/ZXTR2105F_NPA.pdf?src-supplier=Digi-Key; ComponentLink3URL: https://www.diodes.com/assets/Datasheets/ZXTR2105F.pdf?src-supplier=Digi-Key; ComponentLink3Description: https://www.diodes.com/assets/Datasheets/ZXTR2105F.pdf?src-supplier=Digi-Key; Supplier Part Number 1: ZXTR2105F-7DICT-ND
pins: 1 GND, 2 Vout, 3 Vin